# EAGLE library part METROMINI (library christy)
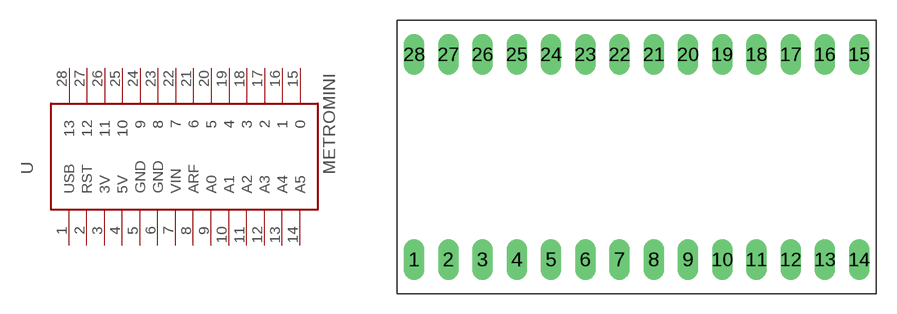
[diagram p0: symbol with the pads of METROMINI; footprint METROMINI]

Designator prefix -

## METROMINI  [METROMINI]
1  USB
2  RST
3  3V
4  5V
5  GND
6  GND
7  VIN
8  ARF
9  A0
10  A1
11  A2
12  A3
13  A4
14  A5
15  0
16  1
17  2
18  3
19  4
20  5
21  6
22  7
23  8
24  9
25  10
26  11
27  12
28  13

## Footprint METROMINI (pad centres in mm)
drill 1.016 long: 1 -15.24,0; 2 -12.7,0; 3 -10.16,0; 4 -7.62,0; 5 -5.08,0; 6 -2.54,0; 7 0,0; 8 2.54,0; 9 5.08,0; 10 7.62,0; 11 10.16,0; 12 12.7,0; 13 15.24,0; 14 17.78,0; 15 17.78,15.24; 16 15.24,15.24; 17 12.7,15.24; 18 10.16,15.24; 19 7.62,15.24; 20 5.08,15.24; 21 2.54,15.24; 22 0,15.24; 23 -2.54,15.24; 24 -5.08,15.24; 25 -7.62,15.24; 26 -10.16,15.24; 27 -12.7,15.24; 28 -15.24,15.24